# Altium integrated library Resistors.IntLib: 4954 symbols (part 1 of 32)
Pins are listed as number, name and electrical type; pins without a type are passive.

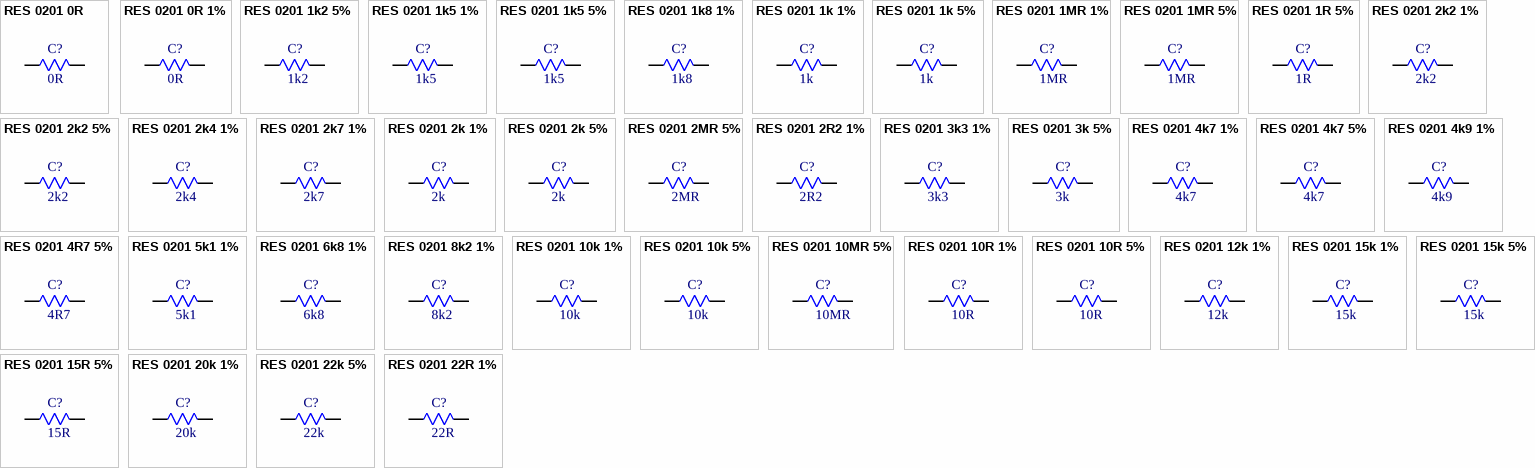
[diagram p0: symbols RES 0201 0R to RES 0201 22R 1%]

## RES 0201 0R
designator C?, comment 0R
0R 50mW 25V Thick Film Resistor 0201 Chip Resistor - Surface Mount RoHS; Manufacturer: FOJAN; Manufacturer Part Number: FRC0201P000 TS; Supplier: LCSC; Supplier Part Number: C7467269; Resistance: 0R; Voltage Rating: 25V; Power: 50mW
footprint RES SMD 0201
pins: 1, 2

## RES 0201 0R 1%
designator C?, comment 0R
0R 50mW Thick Film Resistor 1% 0201 Chip Resistor - Surface Mount RoHS; Manufacturer: FOJAN; Manufacturer Part Number: FRC0201F0000TS; Supplier: LCSC; Supplier Part Number: C7467275; Resistance: 0R; Tolerance: 1%; Power: 50mW
footprint RES SMD 0201
pins: 1, 2

## RES 0201 1k2 5%
designator C?, comment 1k2
1.2kR 50mW 25V Thick Film Resistor 200ppm/â„ƒ 5% 0201 Chip Resistor - Surface Mount RoHS; Manufacturer: FOJAN; Manufacturer Part Number: FRC0201J122 TS; Supplier: LCSC; Supplier Part Number: C18164356; Resistance: 1k2; Tolerance: 5%; Voltage Rating: 25V; Power: 50mW
footprint RES SMD 0201
pins: 1, 2

## RES 0201 1k5 1%
designator C?, comment 1k5
1.5kR 1% 50mW 0201 Thick Film Resistor; Manufacturer: FOJAN; Manufacturer Part Number: FRC0201F1501TS; Voltage Rating: 25V; Supplier: LCSC; Supplier Part Number: C46635930; Resistance: 1k5; Tolerance: 1%; Power: 50mW
footprint RES SMD 0201
pins: 1, 2

## RES 0201 1k5 5%
designator C?, comment 1k5
50mW 1.5kR Thick Film Resistor 200ppm/â„ƒ 5% 0201 Chip Resistor - Surface Mount RoHS; Manufacturer: FOJAN; Manufacturer Part Number: FRC0201J152 TS; Supplier: LCSC; Supplier Part Number: C7467261; Resistance: 1k5; Tolerance: 5%; Power: 50mW
footprint RES SMD 0201
pins: 1, 2

## RES 0201 1k8 1%
designator C?, comment 1k8
50mW 1.8kR 25V Thick Film Resistor 200ppm/â„ƒ 1% 0201 Chip Resistor - Surface Mount RoHS; Manufacturer: FOJAN; Manufacturer Part Number: FRC0201F1801TS; Supplier: LCSC; Supplier Part Number: C18164362; Resistance: 1k8; Tolerance: 1%; Voltage Rating: 25V; Power: 50mW
footprint RES SMD 0201
pins: 1, 2

## RES 0201 1k 1%
designator C?, comment 1k
50mW 1kR Thick Film Resistor 200ppm/â„ƒ 1% 0201 Chip Resistor - Surface Mount RoHS; Manufacturer: FOJAN; Manufacturer Part Number: FRC0201F1001TS; Supplier: LCSC; Supplier Part Number: C7467283; Resistance: 1k; Tolerance: 1%; Power: 50mW
footprint RES SMD 0201
pins: 1, 2

## RES 0201 1k 5%
designator C?, comment 1k
50mW 1kR Thick Film Resistor 200ppm/â„ƒ 5% 0201 Chip Resistor - Surface Mount RoHS; Manufacturer: FOJAN; Manufacturer Part Number: FRC0201J102 TS; Supplier: LCSC; Supplier Part Number: C7467313; Resistance: 1k; Tolerance: 5%; Power: 50mW
footprint RES SMD 0201
pins: 1, 2

## RES 0201 1MR 1%
designator C?, comment 1MR
50mW 1MR 25V Thick Film Resistor 200ppm/â„ƒ 1% 0201 Chip Resistor - Surface Mount RoHS; Manufacturer: FOJAN; Manufacturer Part Number: FRC0201F1004TS; Supplier: LCSC; Supplier Part Number: C18164322; Resistance: 1MR; Tolerance: 1%; Voltage Rating: 25V; Power: 50mW
footprint RES SMD 0201
pins: 1, 2

## RES 0201 1MR 5%
designator C?, comment 1MR
50mW 1MR Thick Film Resistor 200ppm/â„ƒ 5% 0201 Chip Resistor - Surface Mount RoHS; Manufacturer: FOJAN; Manufacturer Part Number: FRC0201J105 TS; Supplier: LCSC; Supplier Part Number: C7467315; Resistance: 1MR; Tolerance: 5%; Power: 50mW
footprint RES SMD 0201
pins: 1, 2

## RES 0201 1R 5%
designator C?, comment 1R
1R 50mW 25V Thick Film Resistor 400ppm/â„ƒ 5% 0201 Chip Resistor - Surface Mount RoHS; Manufacturer: FOJAN; Manufacturer Part Number: FRC0201J1R0 TS; Supplier: LCSC; Supplier Part Number: C18164327; Resistance: 1R; Tolerance: 5%; Voltage Rating: 25V; Power: 50mW
footprint RES SMD 0201
pins: 1, 2

## RES 0201 2k2 1%
designator C?, comment 2k2
50mW 2.2kR Thick Film Resistor 200ppm/â„ƒ 1% 0201 Chip Resistor - Surface Mount; Manufacturer: FOJAN; Manufacturer Part Number: FRC0201F2201TS; Supplier: LCSC; Supplier Part Number: C7467274; Resistance: 2k2; Tolerance: 1%; Power: 50mW
footprint RES SMD 0201
pins: 1, 2

## RES 0201 2k2 5%
designator C?, comment 2k2
50mW 2.2kR 25V Thick Film Resistor 200ppm/â„ƒ 5% 0201 Chip Resistor - Surface Mount RoHS; Manufacturer: FOJAN; Manufacturer Part Number: FRC0201J222 TS; Supplier: LCSC; Supplier Part Number: C18164331; Resistance: 2k2; Tolerance: 5%; Voltage Rating: 25V; Power: 50mW
footprint RES SMD 0201
pins: 1, 2

## RES 0201 2k4 1%
designator C?, comment 2k4
2.49kR 1% 50mW 0201 Thick Film Resistor; Manufacturer: FOJAN; Manufacturer Part Number: FRC0201F2491TS; Voltage Rating: 25V; Supplier: LCSC; Supplier Part Number: C46635941; Resistance: 2k4; Tolerance: 1%; Power: 50mW
footprint RES SMD 0201
pins: 1, 2

## RES 0201 2k7 1%
designator C?, comment 2k7
50mW 2.7kR Thick Film Resistor 200ppm/â„ƒ 1% 0201 Chip Resistor - Surface Mount RoHS; Manufacturer: FOJAN; Manufacturer Part Number: FRC0201F2701TS; Supplier: LCSC; Supplier Part Number: C7467314; Resistance: 2k7; Tolerance: 1%; Power: 50mW
footprint RES SMD 0201
pins: 1, 2

## RES 0201 2k 1%
designator C?, comment 2k
2kR 50mW 25V Thick Film Resistor 200ppm/â„ƒ 1% 0201 Chip Resistor - Surface Mount RoHS; Manufacturer: FOJAN; Manufacturer Part Number: FRC0201F2001TS; Supplier: LCSC; Supplier Part Number: C18164321; Resistance: 2k; Tolerance: 1%; Voltage Rating: 25V; Power: 50mW
footprint RES SMD 0201
pins: 1, 2

## RES 0201 2k 5%
designator C?, comment 2k
2kR 50mW 25V Thick Film Resistor 200ppm/â„ƒ 5% 0201 Chip Resistor - Surface Mount RoHS; Manufacturer: FOJAN; Manufacturer Part Number: FRC0201J202 TS; Supplier: LCSC; Supplier Part Number: C18164329; Resistance: 2k; Tolerance: 5%; Voltage Rating: 25V; Power: 50mW
footprint RES SMD 0201
pins: 1, 2

## RES 0201 2MR 5%
designator C?, comment 2MR
2MR 50mW 25V Thick Film Resistor 200ppm/â„ƒ 5% 0201 Chip Resistor - Surface Mount RoHS; Manufacturer: FOJAN; Manufacturer Part Number: FRC0201J205 TS; Supplier: LCSC; Supplier Part Number: C18164332; Resistance: 2MR; Tolerance: 5%; Voltage Rating: 25V; Power: 50mW
footprint RES SMD 0201
pins: 1, 2

## RES 0201 2R2 1%
designator C?, comment 2R2
2.2R 1% 50mW 0201 Thick Film Resistor; Manufacturer: FOJAN; Manufacturer Part Number: FRC0201F2R20TS; Voltage Rating: 25V; Supplier: LCSC; Supplier Part Number: C46635936; Resistance: 2R2; Tolerance: 1%; Power: 50mW
footprint RES SMD 0201
pins: 1, 2

## RES 0201 3k3 1%
designator C?, comment 3k3
3.3kR 1% 50mW 0201 Thick Film Resistor; Manufacturer: FOJAN; Manufacturer Part Number: FRC0201F3301TS; Voltage Rating: 25V; Supplier: LCSC; Supplier Part Number: C46635947; Resistance: 3k3; Tolerance: 1%; Power: 50mW
footprint RES SMD 0201
pins: 1, 2

## RES 0201 3k 5%
designator C?, comment 3k
50mW 3kR 25V Thick Film Resistor 200ppm/â„ƒ 5% 0201 Chip Resistor - Surface Mount RoHS; Manufacturer: FOJAN; Manufacturer Part Number: FRC0201J302 TS; Supplier: LCSC; Supplier Part Number: C18164333; Resistance: 3k; Tolerance: 5%; Voltage Rating: 25V; Power: 50mW
footprint RES SMD 0201
pins: 1, 2

## RES 0201 4k7 1%
designator C?, comment 4k7
50mW 4.7kR Thick Film Resistor 200ppm/â„ƒ 1% 0201 Chip Resistor - Surface Mount RoHS; Manufacturer: FOJAN; Manufacturer Part Number: FRC0201F4701TS; Supplier: LCSC; Supplier Part Number: C7467278; Resistance: 4k7; Tolerance: 1%; Power: 50mW
footprint RES SMD 0201
pins: 1, 2

## RES 0201 4k7 5%
designator C?, comment 4k7
50mW 4.7kR Thick Film Resistor 200ppm/â„ƒ 5% 0201 Chip Resistor - Surface Mount RoHS; Manufacturer: FOJAN; Manufacturer Part Number: FRC0201J472 TS; Supplier: LCSC; Supplier Part Number: C7467262; Resistance: 4k7; Tolerance: 5%; Power: 50mW
footprint RES SMD 0201
pins: 1, 2

## RES 0201 4k9 1%
designator C?, comment 4k9
50mW 4.99kR 25V Thick Film Resistor 200ppm/â„ƒ 1% 0201 Chip Resistor - Surface Mount RoHS; Manufacturer: FOJAN; Manufacturer Part Number: FRC0201F4991TS; Supplier: LCSC; Supplier Part Number: C18164336; Resistance: 4k9; Tolerance: 1%; Voltage Rating: 25V; Power: 50mW
footprint RES SMD 0201
pins: 1, 2

## RES 0201 4R7 5%
designator C?, comment 4R7
4.7R 50mW 25V Thick Film Resistor 400ppm/â„ƒ 5% 0201 Chip Resistor - Surface Mount RoHS; Manufacturer: FOJAN; Manufacturer Part Number: FRC0201J4R7 TS; Supplier: LCSC; Supplier Part Number: C18164357; Resistance: 4R7; Tolerance: 5%; Voltage Rating: 25V; Power: 50mW
footprint RES SMD 0201
pins: 1, 2

## RES 0201 5k1 1%
designator C?, comment 5k1
50mW 5.1kR Thick Film Resistor 200ppm/â„ƒ 1% 0201 Chip Resistor - Surface Mount RoHS; Manufacturer: FOJAN; Manufacturer Part Number: FRC0201F5101TS; Supplier: LCSC; Supplier Part Number: C7467277; Resistance: 5k1; Tolerance: 1%; Power: 50mW
footprint RES SMD 0201
pins: 1, 2

## RES 0201 6k8 1%
designator C?, comment 6k8
6.8kR 50mW 25V Thick Film Resistor 200ppm/â„ƒ 1% 0201 Chip Resistor - Surface Mount RoHS; Manufacturer: FOJAN; Manufacturer Part Number: FRC0201F6801TS; Supplier: LCSC; Supplier Part Number: C18164354; Resistance: 6k8; Tolerance: 1%; Voltage Rating: 25V; Power: 50mW
footprint RES SMD 0201
pins: 1, 2

## RES 0201 8k2 1%
designator C?, comment 8k2
50mW 8.2kR 25V Thick Film Resistor 200ppm/â„ƒ 1% 0201 Chip Resistor - Surface Mount RoHS; Manufacturer: FOJAN; Manufacturer Part Number: FRC0201F8201TS; Supplier: LCSC; Supplier Part Number: C18164351; Resistance: 8k2; Tolerance: 1%; Voltage Rating: 25V; Power: 50mW
footprint RES SMD 0201
pins: 1, 2

## RES 0201 10k 1%
designator C?, comment 10k
10kR 50mW Thick Film Resistor 200ppm/â„ƒ 1% 0201 Chip Resistor - Surface Mount RoHS; Manufacturer: FOJAN; Manufacturer Part Number: FRC0201F1002TS; Supplier: LCSC; Supplier Part Number: C7467282; Resistance: 10k; Tolerance: 1%; Power: 50mW
footprint RES SMD 0201
pins: 1, 2

## RES 0201 10k 5%
designator C?, comment 10k
10kR 50mW Thick Film Resistor 200ppm/â„ƒ 5% 0201 Chip Resistor - Surface Mount RoHS; Manufacturer: FOJAN; Manufacturer Part Number: FRC0201J103 TS; Supplier: LCSC; Supplier Part Number: C7467266; Resistance: 10k; Tolerance: 5%; Power: 50mW
footprint RES SMD 0201
pins: 1, 2

## RES 0201 10MR 5%
designator C?, comment 10MR
50mW 10MR 25V Thick Film Resistor 200ppm/â„ƒ 5% 0201 Chip Resistor - Surface Mount RoHS; Manufacturer: FOJAN; Manufacturer Part Number: FRC0201J106 TS; Supplier: LCSC; Supplier Part Number: C18164330; Resistance: 10MR; Tolerance: 5%; Voltage Rating: 25V; Power: 50mW
footprint RES SMD 0201
pins: 1, 2

## RES 0201 10R 1%
designator C?, comment 10R
10R 50mW 25V Thick Film Resistor 400ppm/â„ƒ 1% 0201 Chip Resistor - Surface Mount RoHS; Manufacturer: FOJAN; Manufacturer Part Number: FRC0201F10R0TS; Supplier: LCSC; Supplier Part Number: C18164317; Resistance: 10R; Tolerance: 1%; Voltage Rating: 25V; Power: 50mW
footprint RES SMD 0201
pins: 1, 2

## RES 0201 10R 5%
designator C?, comment 10R
10R 50mW 25V Thick Film Resistor 400ppm/â„ƒ 5% 0201 Chip Resistor - Surface Mount RoHS; Manufacturer: FOJAN; Manufacturer Part Number: FRC0201J100 TS; Supplier: LCSC; Supplier Part Number: C18164335; Resistance: 10R; Tolerance: 5%; Voltage Rating: 25V; Power: 50mW
footprint RES SMD 0201
pins: 1, 2

## RES 0201 12k 1%
designator C?, comment 12k
12kR 1% 50mW 0201 Thick Film Resistor; Manufacturer: FOJAN; Manufacturer Part Number: FRC0201F1202TS; Voltage Rating: 25V; Supplier: LCSC; Supplier Part Number: C46635933; Resistance: 12k; Tolerance: 1%; Power: 50mW
footprint RES SMD 0201
pins: 1, 2

## RES 0201 15k 1%
designator C?, comment 15k
15kR 50mW 25V Thick Film Resistor 200ppm/â„ƒ 1% 0201 Chip Resistor - Surface Mount RoHS; Manufacturer: FOJAN; Manufacturer Part Number: FRC0201F1502TS; Supplier: LCSC; Supplier Part Number: C18164326; Resistance: 15k; Tolerance: 1%; Voltage Rating: 25V; Power: 50mW
footprint RES SMD 0201
pins: 1, 2

## RES 0201 15k 5%
designator C?, comment 15k
15kR 50mW 25V Thick Film Resistor 200ppm/â„ƒ 5% 0201 Chip Resistor - Surface Mount RoHS; Manufacturer: FOJAN; Manufacturer Part Number: FRC0201J153 TS; Supplier: LCSC; Supplier Part Number: C18164345; Resistance: 15k; Tolerance: 5%; Voltage Rating: 25V; Power: 50mW
footprint RES SMD 0201
pins: 1, 2

## RES 0201 15R 5%
designator C?, comment 15R
50mW 15R 25V Thick Film Resistor 200ppm/â„ƒ 5% 0201 Chip Resistor - Surface Mount RoHS; Manufacturer: FOJAN; Manufacturer Part Number: FRC0201J150 TS; Supplier: LCSC; Supplier Part Number: C18164323; Resistance: 15R; Tolerance: 5%; Voltage Rating: 25V; Power: 50mW
footprint RES SMD 0201
pins: 1, 2

## RES 0201 20k 1%
designator C?, comment 20k
50mW 20kR Thick Film Resistor 200ppm/â„ƒ 1% 0201 Chip Resistor - Surface Mount RoHS; Manufacturer: FOJAN; Manufacturer Part Number: FRC0201F2002TS; Supplier: LCSC; Supplier Part Number: C7467285; Resistance: 20k; Tolerance: 1%; Power: 50mW
footprint RES SMD 0201
pins: 1, 2

## RES 0201 22k 5%
designator C?, comment 22k
50mW 22kR 25V Thick Film Resistor 200ppm/â„ƒ 5% 0201 Chip Resistor - Surface Mount RoHS; Manufacturer: FOJAN; Manufacturer Part Number: FRC0201J223 TS; Supplier: LCSC; Supplier Part Number: C18164360; Resistance: 22k; Tolerance: 5%; Voltage Rating: 25V; Power: 50mW
footprint RES SMD 0201
pins: 1, 2

## RES 0201 22R 1%
designator C?, comment 22R
22R 50mW 25V Thick Film Resistor 200ppm/â„ƒ 1% 0201 Chip Resistor - Surface Mount RoHS; Manufacturer: FOJAN; Manufacturer Part Number: FRC0201F22R0TS; Supplier: LCSC; Supplier Part Number: C18164319; Resistance: 22R; Tolerance: 1%; Voltage Rating: 25V; Power: 50mW
footprint RES SMD 0201
pins: 1, 2

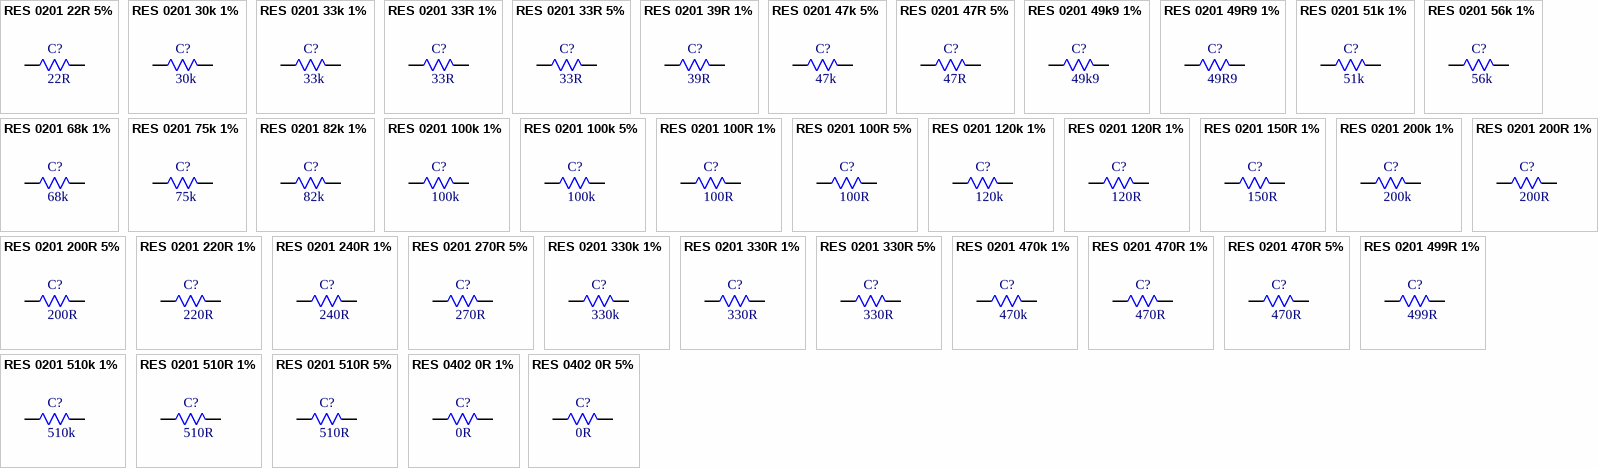
[diagram p1: symbols RES 0201 22R 5% to RES 0402 0R 5%]

## RES 0201 22R 5%
designator C?, comment 22R
22R 50mW Thick Film Resistor 200ppm/â„ƒ 5% 0201 Chip Resistor - Surface Mount RoHS; Manufacturer: FOJAN; Manufacturer Part Number: FRC0201J220 TS; Supplier: LCSC; Supplier Part Number: C7467268; Resistance: 22R; Tolerance: 5%; Power: 50mW
footprint RES SMD 0201
pins: 1, 2

## RES 0201 30k 1%
designator C?, comment 30k
50mW 30kR 25V Thick Film Resistor 200ppm/â„ƒ 1% 0201 Chip Resistor - Surface Mount RoHS; Manufacturer: FOJAN; Manufacturer Part Number: FRC0201F3002TS; Supplier: LCSC; Supplier Part Number: C18164349; Resistance: 30k; Tolerance: 1%; Voltage Rating: 25V; Power: 50mW
footprint RES SMD 0201
pins: 1, 2

## RES 0201 33k 1%
designator C?, comment 33k
33kR 1% 50mW 0201 Thick Film Resistor; Manufacturer: FOJAN; Manufacturer Part Number: FRC0201F3302TS; Voltage Rating: 25V; Supplier: LCSC; Supplier Part Number: C46635937; Resistance: 33k; Tolerance: 1%; Power: 50mW
footprint RES SMD 0201
pins: 1, 2

## RES 0201 33R 1%
designator C?, comment 33R
33R 50mW Thick Film Resistor 200ppm/â„ƒ 1% 0201 Chip Resistor - Surface Mount RoHS; Manufacturer: FOJAN; Manufacturer Part Number: FRC0201F33R0TS; Supplier: LCSC; Supplier Part Number: C7467271; Resistance: 33R; Tolerance: 1%; Power: 50mW
footprint RES SMD 0201
pins: 1, 2

## RES 0201 33R 5%
designator C?, comment 33R
33R 50mW 25V Thick Film Resistor 200ppm/â„ƒ 5% 0201 Chip Resistor - Surface Mount RoHS; Manufacturer: FOJAN; Manufacturer Part Number: FRC0201J330 TS; Supplier: LCSC; Supplier Part Number: C18164328; Resistance: 33R; Tolerance: 5%; Voltage Rating: 25V; Power: 50mW
footprint RES SMD 0201
pins: 1, 2

## RES 0201 39R 1%
designator C?, comment 39R
39R 50mW Thick Film Resistor 200ppm/â„ƒ 1% 0201 Chip Resistor - Surface Mount RoHS; Manufacturer: FOJAN; Manufacturer Part Number: FRC0201F39R0TS; Supplier: LCSC; Supplier Part Number: C7467286; Resistance: 39R; Tolerance: 1%; Power: 50mW
footprint RES SMD 0201
pins: 1, 2

## RES 0201 47k 5%
designator C?, comment 47k
47kR 50mW 25V Thick Film Resistor 200ppm/â„ƒ 5% 0201 Chip Resistor - Surface Mount RoHS; Manufacturer: FOJAN; Manufacturer Part Number: FRC0201J473 TS; Supplier: LCSC; Supplier Part Number: C18164341; Resistance: 47k; Tolerance: 5%; Voltage Rating: 25V; Power: 50mW
footprint RES SMD 0201
pins: 1, 2

## RES 0201 47R 5%
designator C?, comment 47R
47R 5% 50mW 0201 Thick Film Resistor; Manufacturer: FOJAN; Manufacturer Part Number: FRC0201J470 TS; Voltage Rating: 25V; Supplier: LCSC; Supplier Part Number: C46635948; Resistance: 47R; Tolerance: 5%; Power: 50mW
footprint RES SMD 0201
pins: 1, 2

## RES 0201 49k9 1%
designator C?, comment 49k9
49.9kR 1% 50mW 0201 Thick Film Resistor; Manufacturer: FOJAN; Manufacturer Part Number: FRC0201F4992TS; Voltage Rating: 25V; Supplier: LCSC; Supplier Part Number: C46635939; Resistance: 49k9; Tolerance: 1%; Power: 50mW
footprint RES SMD 0201
pins: 1, 2

## RES 0201 49R9 1%
designator C?, comment 49R9
49.9R 50mW Thick Film Resistor 200ppm/â„ƒ 1% 0201 Chip Resistor - Surface Mount RoHS; Manufacturer: FOJAN; Manufacturer Part Number: FRC0201F49R9TS; Supplier: LCSC; Supplier Part Number: C7467280; Resistance: 49R9; Tolerance: 1%; Power: 50mW
footprint RES SMD 0201
pins: 1, 2

## RES 0201 51k 1%
designator C?, comment 51k
51kR 1% 50mW 0201 Thick Film Resistor; Manufacturer: FOJAN; Manufacturer Part Number: FRC0201F5102TS; Voltage Rating: 25V; Supplier: LCSC; Supplier Part Number: C46635934; Resistance: 51k; Tolerance: 1%; Power: 50mW
footprint RES SMD 0201
pins: 1, 2

## RES 0201 56k 1%
designator C?, comment 56k
50mW 56kR 25V Thick Film Resistor 200ppm/â„ƒ 1% 0201 Chip Resistor - Surface Mount RoHS; Manufacturer: FOJAN; Manufacturer Part Number: FRC0201F5602TS; Supplier: LCSC; Supplier Part Number: C18164325; Resistance: 56k; Tolerance: 1%; Voltage Rating: 25V; Power: 50mW
footprint RES SMD 0201
pins: 1, 2

## RES 0201 68k 1%
designator C?, comment 68k
68kR 50mW 25V Thick Film Resistor 200ppm/â„ƒ 1% 0201 Chip Resistor - Surface Mount RoHS; Manufacturer: FOJAN; Manufacturer Part Number: FRC0201F6802TS; Supplier: LCSC; Supplier Part Number: C18164353; Resistance: 68k; Tolerance: 1%; Voltage Rating: 25V; Power: 50mW
footprint RES SMD 0201
pins: 1, 2

## RES 0201 75k 1%
designator C?, comment 75k
50mW 75kR 25V Thick Film Resistor 200ppm/â„ƒ 1% 0201 Chip Resistor - Surface Mount RoHS; Manufacturer: FOJAN; Manufacturer Part Number: FRC0201F7502TS; Supplier: LCSC; Supplier Part Number: C18164324; Resistance: 75k; Tolerance: 1%; Voltage Rating: 25V; Power: 50mW
footprint RES SMD 0201
pins: 1, 2

## RES 0201 82k 1%
designator C?, comment 82k
50mW 82kR 25V Thick Film Resistor 200ppm/â„ƒ 1% 0201 Chip Resistor - Surface Mount RoHS; Manufacturer: FOJAN; Manufacturer Part Number: FRC0201F8202TS; Supplier: LCSC; Supplier Part Number: C18164355; Resistance: 82k; Tolerance: 1%; Voltage Rating: 25V; Power: 50mW
footprint RES SMD 0201
pins: 1, 2

## RES 0201 100k 1%
designator C?, comment 100k
50mW 100kR 25V Thick Film Resistor 200ppm/â„ƒ 1% 0201 Chip Resistor - Surface Mount RoHS; Manufacturer: FOJAN; Manufacturer Part Number: FRC0201F1003TS; Supplier: LCSC; Supplier Part Number: C18164339; Resistance: 100k; Tolerance: 1%; Voltage Rating: 25V; Power: 50mW
footprint RES SMD 0201
pins: 1, 2

## RES 0201 100k 5%
designator C?, comment 100k
50mW 100kR Thick Film Resistor 200ppm/â„ƒ 5% 0201 Chip Resistor - Surface Mount RoHS; Manufacturer: FOJAN; Manufacturer Part Number: FRC0201J104 TS; Supplier: LCSC; Supplier Part Number: C7467260; Resistance: 100k; Tolerance: 5%; Power: 50mW
footprint RES SMD 0201
pins: 1, 2

## RES 0201 100R 1%
designator C?, comment 100R
50mW 100R Thick Film Resistor 200ppm/â„ƒ 1% 0201 Chip Resistor - Surface Mount RoHS; Manufacturer: FOJAN; Manufacturer Part Number: FRC0201F1000TS; Supplier: LCSC; Supplier Part Number: C7467289; Resistance: 100R; Tolerance: 1%; Power: 50mW
footprint RES SMD 0201
pins: 1, 2

## RES 0201 100R 5%
designator C?, comment 100R
50mW 100R Thick Film Resistor 200ppm/â„ƒ 5% 0201 Chip Resistor - Surface Mount RoHS; Manufacturer: FOJAN; Manufacturer Part Number: FRC0201J101 TS; Supplier: LCSC; Supplier Part Number: C7467265; Resistance: 100R; Tolerance: 5%; Power: 50mW
footprint RES SMD 0201
pins: 1, 2

## RES 0201 120k 1%
designator C?, comment 120k
120kR 1% 50mW 0201 Thick Film Resistor; Manufacturer: FOJAN; Manufacturer Part Number: FRC0201F1203TS; Voltage Rating: 25V; Supplier: LCSC; Supplier Part Number: C46635940; Resistance: 120k; Tolerance: 1%; Power: 50mW
footprint RES SMD 0201
pins: 1, 2

## RES 0201 120R 1%
designator C?, comment 120R
120R 1% 50mW 0201 Thick Film Resistor; Manufacturer: FOJAN; Manufacturer Part Number: FRC0201F1200TS; Voltage Rating: 25V; Supplier: LCSC; Supplier Part Number: C46635935; Resistance: 120R; Tolerance: 1%; Power: 50mW
footprint RES SMD 0201
pins: 1, 2

## RES 0201 150R 1%
designator C?, comment 150R
50mW 150R Thick Film Resistor 200ppm/â„ƒ 1% 0201 Chip Resistor - Surface Mount; Manufacturer: FOJAN; Manufacturer Part Number: FRC0201F1500TS; Supplier: LCSC; Supplier Part Number: C7467287; Resistance: 150R; Tolerance: 1%; Power: 50mW
footprint RES SMD 0201
pins: 1, 2

## RES 0201 200k 1%
designator C?, comment 200k
50mW 200kR 25V Thick Film Resistor 200ppm/â„ƒ 1% 0201 Chip Resistor - Surface Mount RoHS; Manufacturer: FOJAN; Manufacturer Part Number: FRC0201F2003TS; Supplier: LCSC; Supplier Part Number: C18164344; Resistance: 200k; Tolerance: 1%; Voltage Rating: 25V; Power: 50mW
footprint RES SMD 0201
pins: 1, 2

## RES 0201 200R 1%
designator C?, comment 200R
50mW 200R 25V Thick Film Resistor 200ppm/â„ƒ 1% 0201 Chip Resistor - Surface Mount RoHS; Manufacturer: FOJAN; Manufacturer Part Number: FRC0201F2000TS; Supplier: LCSC; Supplier Part Number: C18164318; Resistance: 200R; Tolerance: 1%; Voltage Rating: 25V; Power: 50mW
footprint RES SMD 0201
pins: 1, 2

## RES 0201 200R 5%
designator C?, comment 200R
50mW 200R Thick Film Resistor 200ppm/â„ƒ 5% 0201 Chip Resistor - Surface Mount RoHS; Manufacturer: FOJAN; Manufacturer Part Number: FRC0201J201 TS; Supplier: LCSC; Supplier Part Number: C7467263; Resistance: 200R; Tolerance: 5%; Power: 50mW
footprint RES SMD 0201
pins: 1, 2

## RES 0201 220R 1%
designator C?, comment 220R
220R 1% 50mW 0201 Thick Film Resistor; Manufacturer: FOJAN; Manufacturer Part Number: FRC0201F2200TS; Voltage Rating: 25V; Supplier: LCSC; Supplier Part Number: C46635932; Resistance: 220R; Tolerance: 1%; Power: 50mW
footprint RES SMD 0201
pins: 1, 2

## RES 0201 240R 1%
designator C?, comment 240R
240R 50mW Thick Film Resistor 200ppm/â„ƒ 1% 0201 Chip Resistor - Surface Mount; Manufacturer: FOJAN; Manufacturer Part Number: FRC0201F2400TS; Supplier: LCSC; Supplier Part Number: C7467273; Resistance: 240R; Tolerance: 1%; Power: 50mW
footprint RES SMD 0201
pins: 1, 2

## RES 0201 270R 5%
designator C?, comment 270R
50mW 270R 25V Thick Film Resistor 200ppm/â„ƒ 5% 0201 Chip Resistor - Surface Mount RoHS; Manufacturer: FOJAN; Manufacturer Part Number: FRC0201J271 TS; Supplier: LCSC; Supplier Part Number: C18164347; Resistance: 270R; Tolerance: 5%; Voltage Rating: 25V; Power: 50mW
footprint RES SMD 0201
pins: 1, 2

## RES 0201 330k 1%
designator C?, comment 330k
330kR 1% 50mW 0201 Thick Film Resistor; Manufacturer: FOJAN; Manufacturer Part Number: FRC0201F3303TS; Voltage Rating: 25V; Supplier: LCSC; Supplier Part Number: C46635946; Resistance: 330k; Tolerance: 1%; Power: 50mW
footprint RES SMD 0201
pins: 1, 2

## RES 0201 330R 1%
designator C?, comment 330R
330R 1% 50mW 0201 Thick Film Resistor; Manufacturer: FOJAN; Manufacturer Part Number: FRC0201F3300TS; Voltage Rating: 25V; Supplier: LCSC; Supplier Part Number: C46635938; Resistance: 330R; Tolerance: 1%; Power: 50mW
footprint RES SMD 0201
pins: 1, 2

## RES 0201 330R 5%
designator C?, comment 330R
50mW 330R Thick Film Resistor 200ppm/â„ƒ 5% 0201 Chip Resistor - Surface Mount RoHS; Manufacturer: FOJAN; Manufacturer Part Number: FRC0201J331 TS; Supplier: LCSC; Supplier Part Number: C7467316; Resistance: 330R; Tolerance: 5%; Power: 50mW
footprint RES SMD 0201
pins: 1, 2

## RES 0201 470k 1%
designator C?, comment 470k
470kR 1% 50mW 0201 Thick Film Resistor; Manufacturer: FOJAN; Manufacturer Part Number: FRC0201F4703TS; Voltage Rating: 25V; Supplier: LCSC; Supplier Part Number: C46635943; Resistance: 470k; Tolerance: 1%; Power: 50mW
footprint RES SMD 0201
pins: 1, 2

## RES 0201 470R 1%
designator C?, comment 470R
50mW 470R 25V Thick Film Resistor 200ppm/â„ƒ 1% 0201 Chip Resistor - Surface Mount RoHS; Manufacturer: FOJAN; Manufacturer Part Number: FRC0201F4700TS; Supplier: LCSC; Supplier Part Number: C18164342; Resistance: 470R; Tolerance: 1%; Voltage Rating: 25V; Power: 50mW
footprint RES SMD 0201
pins: 1, 2

## RES 0201 470R 5%
designator C?, comment 470R
50mW 470R 25V Thick Film Resistor 200ppm/â„ƒ 5% 0201 Chip Resistor - Surface Mount RoHS; Manufacturer: FOJAN; Manufacturer Part Number: FRC0201J471 TS; Supplier: LCSC; Supplier Part Number: C18164334; Resistance: 470R; Tolerance: 5%; Voltage Rating: 25V; Power: 50mW
footprint RES SMD 0201
pins: 1, 2

## RES 0201 499R 1%
designator C?, comment 499R
499R 1% 50mW 0201 Thick Film Resistor; Manufacturer: FOJAN; Manufacturer Part Number: FRC0201F4990TS; Voltage Rating: 25V; Supplier: LCSC; Supplier Part Number: C46635942; Resistance: 499R; Tolerance: 1%; Power: 50mW
footprint RES SMD 0201
pins: 1, 2

## RES 0201 510k 1%
designator C?, comment 510k
510kR 1% 50mW 0201 Thick Film Resistor; Manufacturer: FOJAN; Manufacturer Part Number: FRC0201F5103TS; Voltage Rating: 25V; Supplier: LCSC; Supplier Part Number: C46635944; Resistance: 510k; Tolerance: 1%; Power: 50mW
footprint RES SMD 0201
pins: 1, 2

## RES 0201 510R 1%
designator C?, comment 510R
50mW 510R 25V Thick Film Resistor 200ppm/â„ƒ 1% 0201 Chip Resistor - Surface Mount RoHS; Manufacturer: FOJAN; Manufacturer Part Number: FRC0201F5100TS; Supplier: LCSC; Supplier Part Number: C18164320; Resistance: 510R; Tolerance: 1%; Voltage Rating: 25V; Power: 50mW
footprint RES SMD 0201
pins: 1, 2

## RES 0201 510R 5%
designator C?, comment 510R
50mW 510R 25V Thick Film Resistor 200ppm/â„ƒ 5% 0201 Chip Resistor - Surface Mount RoHS; Manufacturer: FOJAN; Manufacturer Part Number: FRC0201J511 TS; Supplier: LCSC; Supplier Part Number: C18164337; Resistance: 510R; Tolerance: 5%; Voltage Rating: 25V; Power: 50mW
footprint RES SMD 0201
pins: 1, 2

## RES 0402 0R 1%
designator C?, comment 0R
62.5mW 0R 50V Thick Film Resistor 1% 0402 Chip Resistor - Surface Mount RoHS; Manufacturer: FOJAN; Manufacturer Part Number: FRC0402F0000TS; Supplier: LCSC; Supplier Part Number: C2906858; Resistance: 0R; Tolerance: 1%; Voltage Rating: 50V; Power: 62.5mW
footprint RES SMD 0402
pins: 1, 2

## RES 0402 0R 5%
designator C?, comment 0R
62.5mW 0R 50V Thick Film Resistor 5% 0402 Chip Resistor - Surface Mount RoHS; Manufacturer: FOJAN; Manufacturer Part Number: FRC0402P000 TS; Supplier: LCSC; Supplier Part Number: C2906877; Resistance: 0R; Tolerance: 5%; Voltage Rating: 50V; Power: 62.5mW
footprint RES SMD 0402
pins: 1, 2

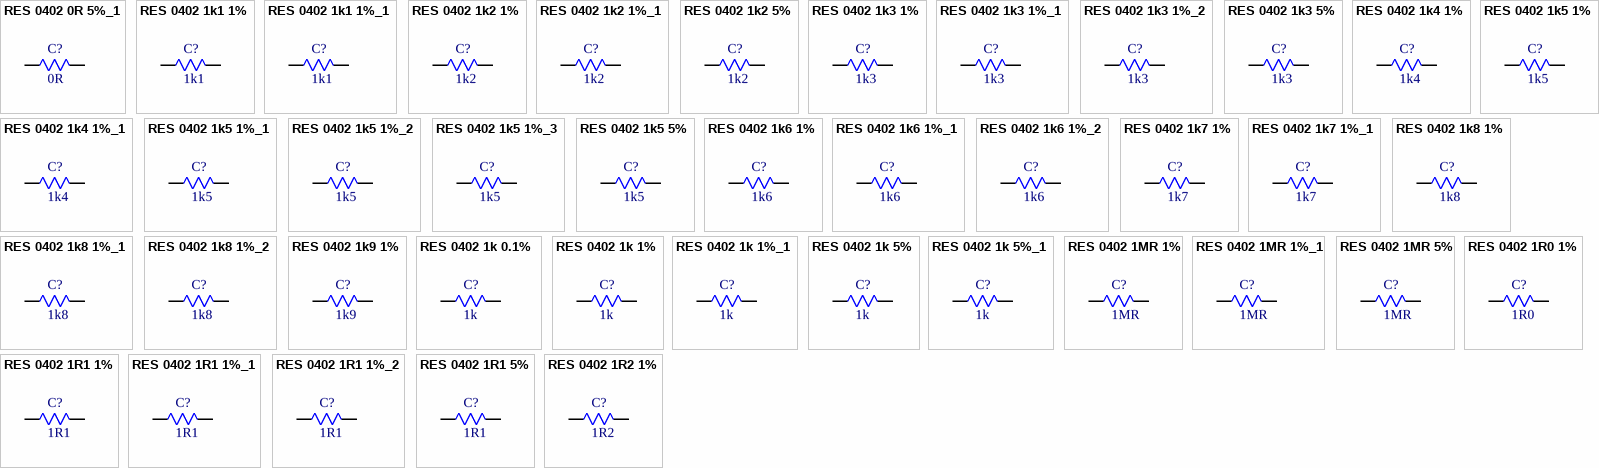
[diagram p2: symbols RES 0402 0R 5%_1 to RES 0402 1R2 1%]

## RES 0402 0R 5%_1
designator C?, comment 0R
0R 62.5mW Thick Film Resistor 5% 0402 Chip Resistor - Surface Mount RoHS; Manufacturer: FOJAN; Manufacturer Part Number: FRQ0402P000 TS; Supplier: LCSC; Supplier Part Number: C7468674; Resistance: 0R; Tolerance: 5%; Power: 62.5mW
footprint RES SMD 0402
pins: 1, 2

## RES 0402 1k1 1%
designator C?, comment 1k1
1.1kR 1% 62.5mW 0402 Thick Film Resistor; Manufacturer: FOJAN; Manufacturer Part Number: FRC0402F1101TS; Voltage Rating: 50V; Supplier: LCSC; Supplier Part Number: C2909306; Resistance: 1k1; Tolerance: 1%; Power: 62.5mW
footprint RES SMD 0402
pins: 1, 2

## RES 0402 1k1 1%_1
designator C?, comment 1k1
1.15kR 1% 62.5mW 0402 Thick Film Resistor; Manufacturer: FOJAN; Manufacturer Part Number: FRC0402F1151TS; Voltage Rating: 50V; Supplier: LCSC; Supplier Part Number: C5159680; Resistance: 1k1; Tolerance: 1%; Power: 62.5mW
footprint RES SMD 0402
pins: 1, 2

## RES 0402 1k2 1%
designator C?, comment 1k2
1.2kR 1% 62.5mW 0402 Thick Film Resistor; Manufacturer: FOJAN; Manufacturer Part Number: FRC0402F1201TS; Voltage Rating: 50V; Supplier: LCSC; Supplier Part Number: C2909307; Resistance: 1k2; Tolerance: 1%; Power: 62.5mW
footprint RES SMD 0402
pins: 1, 2

## RES 0402 1k2 1%_1
designator C?, comment 1k2
1.2kR 62.5mW 50V Thick Film Resistor 1% 0402 Chip Resistor - Surface Mount RoHS; Manufacturer: FOJAN; Manufacturer Part Number: FRQ0402F1201TS; Supplier: LCSC; Supplier Part Number: C52033551; Resistance: 1k2; Tolerance: 1%; Voltage Rating: 50V; Power: 62.5mW
footprint RES SMD 0402
pins: 1, 2

## RES 0402 1k2 5%
designator C?, comment 1k2
1.2kR 5% 62.5mW 0402 Thick Film Resistor; Manufacturer: FOJAN; Manufacturer Part Number: FRC0402J122 TS; Voltage Rating: 50V; Supplier: LCSC; Supplier Part Number: C2906878; Resistance: 1k2; Tolerance: 5%; Power: 62.5mW
footprint RES SMD 0402
pins: 1, 2

## RES 0402 1k3 1%
designator C?, comment 1k3
1.3kR 1% 62.5mW 0402 Thick Film Resistor; Manufacturer: FOJAN; Manufacturer Part Number: FRC0402F1301TS; Voltage Rating: 50V; Supplier: LCSC; Supplier Part Number: C2909308; Resistance: 1k3; Tolerance: 1%; Power: 62.5mW
footprint RES SMD 0402
pins: 1, 2

## RES 0402 1k3 1%_1
designator C?, comment 1k3
62.5mW 1.3kR Thick Film Resistor 1% 100ppm/â„ƒ 0402 Chip Resistor - Surface Mount RoHS; Manufacturer: FOJAN; Manufacturer Part Number: FRQ0402F1301TS; Supplier: LCSC; Supplier Part Number: C7468692; Resistance: 1k3; Tolerance: 1%; Power: 62.5mW
footprint RES SMD 0402
pins: 1, 2

## RES 0402 1k3 1%_2
designator C?, comment 1k3
1.33kR 1% 62.5mW 0402 Thick Film Resistor; Manufacturer: FOJAN; Manufacturer Part Number: FRC0402F1331TS; Voltage Rating: 50V; Supplier: LCSC; Supplier Part Number: C2974006; Resistance: 1k3; Tolerance: 1%; Power: 62.5mW
footprint RES SMD 0402
pins: 1, 2

## RES 0402 1k3 5%
designator C?, comment 1k3
1.3kR 5% 62.5mW 0402 Thick Film Resistor; Manufacturer: FOJAN; Manufacturer Part Number: FRC0402J132 TS; Voltage Rating: 50V; Supplier: LCSC; Supplier Part Number: C2906879; Resistance: 1k3; Tolerance: 5%; Power: 62.5mW
footprint RES SMD 0402
pins: 1, 2

## RES 0402 1k4 1%
designator C?, comment 1k4
1.4kR 1% 62.5mW 0402 Thick Film Resistor; Manufacturer: FOJAN; Manufacturer Part Number: FRC0402F1401TS; Voltage Rating: 50V; Supplier: LCSC; Supplier Part Number: C2974008; Resistance: 1k4; Tolerance: 1%; Power: 62.5mW
footprint RES SMD 0402
pins: 1, 2

## RES 0402 1k4 1%_1
designator C?, comment 1k4
1.47kR 62.5mW 50V Thick Film Resistor 1% 0402 Chip Resistor - Surface Mount RoHS; Manufacturer: FOJAN; Manufacturer Part Number: FRQ0402F1471TS; Supplier: LCSC; Supplier Part Number: C51048292; Resistance: 1k4; Tolerance: 1%; Voltage Rating: 50V; Power: 62.5mW
footprint RES SMD 0402
pins: 1, 2

## RES 0402 1k5 1%
designator C?, comment 1k5
1.5kR 1% 62.5mW 0402 Thick Film Resistor; Manufacturer: FOJAN; Manufacturer Part Number: FRC0402F1501TS; Voltage Rating: 50V; Supplier: LCSC; Supplier Part Number: C2933074; Resistance: 1k5; Tolerance: 1%; Power: 62.5mW
footprint RES SMD 0402
pins: 1, 2

## RES 0402 1k5 1%_1
designator C?, comment 1k5
1.54kR 1% 62.5mW 0402 Thick Film Resistor; Manufacturer: FOJAN; Manufacturer Part Number: FRC0402F1541TS; Voltage Rating: 50V; Supplier: LCSC; Supplier Part Number: C2974010; Resistance: 1k5; Tolerance: 1%; Power: 62.5mW
footprint RES SMD 0402
pins: 1, 2

## RES 0402 1k5 1%_2
designator C?, comment 1k5
1.5kR 1% 62.5mW 0402 Thick Film Resistor; Manufacturer: FOJAN; Manufacturer Part Number: FRQ0402F1501TS; Voltage Rating: 50V; Supplier: LCSC; Supplier Part Number: C19267409; Resistance: 1k5; Tolerance: 1%; Power: 62.5mW
footprint RES SMD 0402
pins: 1, 2

## RES 0402 1k5 1%_3
designator C?, comment 1k5
1.58kR 1% 62.5mW 0402 Thick Film Resistor; Manufacturer: FOJAN; Manufacturer Part Number: FRC0402F1581TS; Voltage Rating: 50V; Supplier: LCSC; Supplier Part Number: C2974011; Resistance: 1k5; Tolerance: 1%; Power: 62.5mW
footprint RES SMD 0402
pins: 1, 2

## RES 0402 1k5 5%
designator C?, comment 1k5
1.5kR 5% 62.5mW 0402 Thick Film Resistor; Manufacturer: FOJAN; Manufacturer Part Number: FRC0402J152TS; Voltage Rating: 50V; Supplier: LCSC; Supplier Part Number: C2929900; Resistance: 1k5; Tolerance: 5%; Power: 62.5mW
footprint RES SMD 0402
pins: 1, 2

## RES 0402 1k6 1%
designator C?, comment 1k6
1.6kR 1% 62.5mW 0402 Thick Film Resistor; Manufacturer: FOJAN; Manufacturer Part Number: FRC0402F1601TS; Voltage Rating: 50V; Supplier: LCSC; Supplier Part Number: C2933076; Resistance: 1k6; Tolerance: 1%; Power: 62.5mW
footprint RES SMD 0402
pins: 1, 2

## RES 0402 1k6 1%_1
designator C?, comment 1k6
1.65kR 1% 62.5mW 0402 Thick Film Resistor; Manufacturer: FOJAN; Manufacturer Part Number: FRC0402F1651TS; Voltage Rating: 50V; Supplier: LCSC; Supplier Part Number: C5203995; Resistance: 1k6; Tolerance: 1%; Power: 62.5mW
footprint RES SMD 0402
pins: 1, 2

## RES 0402 1k6 1%_2
designator C?, comment 1k6
1.69kR 1% 62.5mW 0402 Thick Film Resistor; Manufacturer: FOJAN; Manufacturer Part Number: FRC0402F1691TS; Voltage Rating: 50V; Supplier: LCSC; Supplier Part Number: C5126050; Resistance: 1k6; Tolerance: 1%; Power: 62.5mW
footprint RES SMD 0402
pins: 1, 2

## RES 0402 1k7 1%
designator C?, comment 1k7
62.5mW 1.74kR 50V Thick Film Resistor 1% 100ppm/â„ƒ 0402 Chip Resistor - Surface Mount RoHS; Manufacturer: FOJAN; Manufacturer Part Number: FRC0402F1741TS; Supplier: LCSC; Supplier Part Number: C7467413; Resistance: 1k7; Tolerance: 1%; Voltage Rating: 50V; Power: 62.5mW
footprint RES SMD 0402
pins: 1, 2

## RES 0402 1k7 1%_1
designator C?, comment 1k7
1.78kR 1% 62.5mW 0402 Thick Film Resistor; Manufacturer: FOJAN; Manufacturer Part Number: FRC0402F1781TS; Voltage Rating: 50V; Supplier: LCSC; Supplier Part Number: C5121514; Resistance: 1k7; Tolerance: 1%; Power: 62.5mW
footprint RES SMD 0402
pins: 1, 2

## RES 0402 1k8 1%
designator C?, comment 1k8
1.8kR 1% 62.5mW 0402 Thick Film Resistor; Manufacturer: FOJAN; Manufacturer Part Number: FRC0402F1801TS; Voltage Rating: 50V; Supplier: LCSC; Supplier Part Number: C2909310; Resistance: 1k8; Tolerance: 1%; Power: 62.5mW
footprint RES SMD 0402
pins: 1, 2

## RES 0402 1k8 1%_1
designator C?, comment 1k8
1.8kR 1% 62.5mW 0402 Thick Film Resistor; Manufacturer: FOJAN; Manufacturer Part Number: FRQ0402F1801TS; Voltage Rating: 50V; Supplier: LCSC; Supplier Part Number: C19267410; Resistance: 1k8; Tolerance: 1%; Power: 62.5mW
footprint RES SMD 0402
pins: 1, 2

## RES 0402 1k8 1%_2
designator C?, comment 1k8
1.82kR 1% 62.5mW 0402 Thick Film Resistor; Manufacturer: FOJAN; Manufacturer Part Number: FRC0402F1821TS; Voltage Rating: 50V; Supplier: LCSC; Supplier Part Number: C5121516; Resistance: 1k8; Tolerance: 1%; Power: 62.5mW
footprint RES SMD 0402
pins: 1, 2

## RES 0402 1k9 1%
designator C?, comment 1k9
1.91kR 1% 62.5mW 0402 Thick Film Resistor; Manufacturer: FOJAN; Manufacturer Part Number: FRC0402F1911TS; Voltage Rating: 50V; Supplier: LCSC; Supplier Part Number: C2998115; Resistance: 1k9; Tolerance: 1%; Power: 62.5mW
footprint RES SMD 0402
pins: 1, 2

## RES 0402 1k 0.1%
designator C?, comment 1k
62.5mW 1kR 50V Thick Film Resistor 100ppm/â„ƒ 0.1% 0402 Chip Resistor - Surface Mount RoHS; Manufacturer: FOJAN; Manufacturer Part Number: FRH0402B1001TS; Supplier: LCSC; Supplier Part Number: C48533754; Resistance: 1k; Tolerance: 0.1%; Voltage Rating: 50V; Power: 62.5mW
footprint RES SMD 0402
pins: 1, 2

## RES 0402 1k 1%
designator C?, comment 1k
1kR 1% 62.5mW 0402 Thick Film Resistor; Manufacturer: FOJAN; Manufacturer Part Number: FRC0402F1001TS; Voltage Rating: 50V; Supplier: LCSC; Supplier Part Number: C2906864; Resistance: 1k; Tolerance: 1%; Power: 62.5mW
footprint RES SMD 0402
pins: 1, 2

## RES 0402 1k 1%_1
designator C?, comment 1k
62.5mW 1kR 50V Thick Film Resistor 100ppm/â„ƒ 1% 0402 Chip Resistor - Surface Mount RoHS; Manufacturer: FOJAN; Manufacturer Part Number: FRQ0402F1001TS; Supplier: LCSC; Supplier Part Number: C18222264; Resistance: 1k; Tolerance: 1%; Voltage Rating: 50V; Power: 62.5mW
footprint RES SMD 0402
pins: 1, 2

## RES 0402 1k 5%
designator C?, comment 1k
62.5mW 1kR 50V Thick Film Resistor 5% 100ppm/â„ƒ 0402 Chip Resistor - Surface Mount RoHS; Manufacturer: FOJAN; Manufacturer Part Number: FRQ0402J102 TS; Supplier: LCSC; Supplier Part Number: C7471239; Resistance: 1k; Tolerance: 5%; Voltage Rating: 50V; Power: 62.5mW
footprint RES SMD 0402
pins: 1, 2

## RES 0402 1k 5%_1
designator C?, comment 1k
1kR 5% 62.5mW 0402 Thick Film Resistor; Manufacturer: FOJAN; Manufacturer Part Number: FRC0402J102 TS; Voltage Rating: 50V; Supplier: LCSC; Supplier Part Number: C2906899; Resistance: 1k; Tolerance: 5%; Power: 62.5mW
footprint RES SMD 0402
pins: 1, 2

## RES 0402 1MR 1%
designator C?, comment 1MR
1MR 1% 62.5mW 0402 Thick Film Resistor; Manufacturer: FOJAN; Manufacturer Part Number: FRC0402F1004TS; Voltage Rating: 50V; Supplier: LCSC; Supplier Part Number: C2909328; Resistance: 1MR; Tolerance: 1%; Power: 62.5mW
footprint RES SMD 0402
pins: 1, 2

## RES 0402 1MR 1%_1
designator C?, comment 1MR
1MR 62.5mW 50V Thick Film Resistor 1% 0402 Chip Resistor - Surface Mount RoHS; Manufacturer: FOJAN; Manufacturer Part Number: FRQ0402F1004TS; Supplier: LCSC; Supplier Part Number: C52033550; Resistance: 1MR; Tolerance: 1%; Voltage Rating: 50V; Power: 62.5mW
footprint RES SMD 0402
pins: 1, 2

## RES 0402 1MR 5%
designator C?, comment 1MR
1MR 5% 62.5mW 0402 Thick Film Resistor; Manufacturer: FOJAN; Manufacturer Part Number: FRC0402J105 TS; Voltage Rating: 50V; Supplier: LCSC; Supplier Part Number: C2906900; Resistance: 1MR; Tolerance: 5%; Power: 62.5mW
footprint RES SMD 0402
pins: 1, 2

## RES 0402 1R0 1%
designator C?, comment 1R0
1.07MR 1% 62.5mW 0402 Thick Film Resistor; Manufacturer: FOJAN; Manufacturer Part Number: FRC0402F1074TS; Voltage Rating: 50V; Supplier: LCSC; Supplier Part Number: C2998044; Resistance: 1R0; Tolerance: 1%; Power: 62.5mW
footprint RES SMD 0402
pins: 1, 2

## RES 0402 1R1 1%
designator C?, comment 1R1
1.1MR 1% 62.5mW 0402 Thick Film Resistor; Manufacturer: FOJAN; Manufacturer Part Number: FRC0402F1104TS; Voltage Rating: 50V; Supplier: LCSC; Supplier Part Number: C2930013; Resistance: 1R1; Tolerance: 1%; Power: 62.5mW
footprint RES SMD 0402
pins: 1, 2

## RES 0402 1R1 1%_1
designator C?, comment 1R1
1.1R 1% 62.5mW 0402 Thick Film Resistor; Manufacturer: FOJAN; Manufacturer Part Number: FRC0402F1R10TS; Voltage Rating: 50V; Supplier: LCSC; Supplier Part Number: C2960786; Resistance: 1R1; Tolerance: 1%; Power: 62.5mW
footprint RES SMD 0402
pins: 1, 2

## RES 0402 1R1 1%_2
designator C?, comment 1R1
1.13MR 62.5mW 50V Thick Film Resistor 1% 0402 Chip Resistor - Surface Mount RoHS; Manufacturer: FOJAN; Manufacturer Part Number: FRC0402F1134TS; Supplier: LCSC; Supplier Part Number: C51048313; Resistance: 1R1; Tolerance: 1%; Voltage Rating: 50V; Power: 62.5mW
footprint RES SMD 0402
pins: 1, 2

## RES 0402 1R1 5%
designator C?, comment 1R1
1.1R 5% 62.5mW 0402 Thick Film Resistor; Manufacturer: FOJAN; Manufacturer Part Number: FRC0402J1R1 TS; Voltage Rating: 50V; Supplier: LCSC; Supplier Part Number: C2974018; Resistance: 1R1; Tolerance: 5%; Power: 62.5mW
footprint RES SMD 0402
pins: 1, 2

## RES 0402 1R2 1%
designator C?, comment 1R2
1.2R 1% 62.5mW 0402 Thick Film Resistor; Manufacturer: FOJAN; Manufacturer Part Number: FRC0402F1R20TS; Voltage Rating: 50V; Supplier: LCSC; Supplier Part Number: C2998063; Resistance: 1R2; Tolerance: 1%; Power: 62.5mW
footprint RES SMD 0402
pins: 1, 2

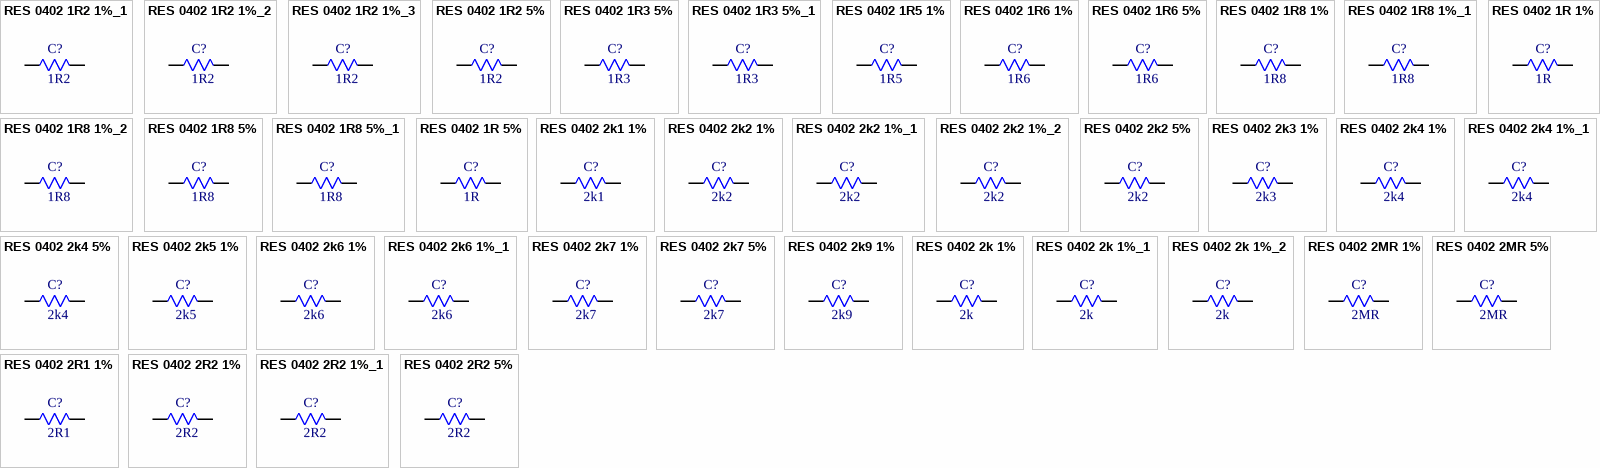
[diagram p3: symbols RES 0402 1R2 1%_1 to RES 0402 2R2 5%]

## RES 0402 1R2 1%_1
designator C?, comment 1R2
1.2MR 1% 62.5mW 0402 Thick Film Resistor; Manufacturer: FOJAN; Manufacturer Part Number: FRC0402F1204TS; Voltage Rating: 50V; Supplier: LCSC; Supplier Part Number: C2960795; Resistance: 1R2; Tolerance: 1%; Power: 62.5mW
footprint RES SMD 0402
pins: 1, 2

## RES 0402 1R2 1%_2
designator C?, comment 1R2
62.5mW 1.21MR 50V Thick Film Resistor 100ppm/â„ƒ 1% 0402 Chip Resistor - Surface Mount RoHS; Manufacturer: FOJAN; Manufacturer Part Number: FRC0402F1214TS; Supplier: LCSC; Supplier Part Number: C48533740; Resistance: 1R2; Tolerance: 1%; Voltage Rating: 50V; Power: 62.5mW
footprint RES SMD 0402
pins: 1, 2

## RES 0402 1R2 1%_3
designator C?, comment 1R2
1.27R 1% 62.5mW 0402 Thick Film Resistor; Manufacturer: FOJAN; Manufacturer Part Number: FRC0402F1R27TS; Voltage Rating: 50V; Supplier: LCSC; Supplier Part Number: C5126157; Resistance: 1R2; Tolerance: 1%; Power: 62.5mW
footprint RES SMD 0402
pins: 1, 2

## RES 0402 1R2 5%
designator C?, comment 1R2
1.2MR 5% 62.5mW 0402 Thick Film Resistor; Manufacturer: FOJAN; Manufacturer Part Number: FRC0402J125TS; Voltage Rating: 50V; Supplier: LCSC; Supplier Part Number: C2929897; Resistance: 1R2; Tolerance: 5%; Power: 62.5mW
footprint RES SMD 0402
pins: 1, 2

## RES 0402 1R3 5%
designator C?, comment 1R3
1.3R 5% 62.5mW 0402 Thick Film Resistor; Manufacturer: FOJAN; Manufacturer Part Number: FRC0402J1R3 TS; Voltage Rating: 50V; Supplier: LCSC; Supplier Part Number: C2974019; Resistance: 1R3; Tolerance: 5%; Power: 62.5mW
footprint RES SMD 0402
pins: 1, 2

## RES 0402 1R3 5%_1
designator C?, comment 1R3
1.3MR 5% 62.5mW 0402 Thick Film Resistor; Manufacturer: FOJAN; Manufacturer Part Number: FRC0402J135TS; Voltage Rating: 50V; Supplier: LCSC; Supplier Part Number: C2929899; Resistance: 1R3; Tolerance: 5%; Power: 62.5mW
footprint RES SMD 0402
pins: 1, 2

## RES 0402 1R5 1%
designator C?, comment 1R5
1.5MR 1% 62.5mW 0402 Thick Film Resistor; Manufacturer: FOJAN; Manufacturer Part Number: FRC0402F1504TS; Voltage Rating: 50V; Supplier: LCSC; Supplier Part Number: C2930014; Resistance: 1R5; Tolerance: 1%; Power: 62.5mW
footprint RES SMD 0402
pins: 1, 2

## RES 0402 1R6 1%
designator C?, comment 1R6
1.6R 1% 62.5mW 0402 Thick Film Resistor; Manufacturer: FOJAN; Manufacturer Part Number: FRC0402F1R60TS; Voltage Rating: 50V; Supplier: LCSC; Supplier Part Number: C2998157; Resistance: 1R6; Tolerance: 1%; Power: 62.5mW
footprint RES SMD 0402
pins: 1, 2

## RES 0402 1R6 5%
designator C?, comment 1R6
1.6R 5% 62.5mW 0402 Thick Film Resistor; Manufacturer: FOJAN; Manufacturer Part Number: FRC0402J1R6 TS; Voltage Rating: 50V; Supplier: LCSC; Supplier Part Number: C5121527; Resistance: 1R6; Tolerance: 5%; Power: 62.5mW
footprint RES SMD 0402
pins: 1, 2

## RES 0402 1R8 1%
designator C?, comment 1R8
1.8MR 1% 62.5mW 0402 Thick Film Resistor; Manufacturer: FOJAN; Manufacturer Part Number: FRC0402F1804TS; Voltage Rating: 50V; Supplier: LCSC; Supplier Part Number: C2933079; Resistance: 1R8; Tolerance: 1%; Power: 62.5mW
footprint RES SMD 0402
pins: 1, 2

## RES 0402 1R8 1%_1
designator C?, comment 1R8
1.87MR 1% 62.5mW 0402 Thick Film Resistor; Manufacturer: FOJAN; Manufacturer Part Number: FRC0402F1874TS; Voltage Rating: 50V; Supplier: LCSC; Supplier Part Number: C5121517; Resistance: 1R8; Tolerance: 1%; Power: 62.5mW
footprint RES SMD 0402
pins: 1, 2

## RES 0402 1R8 1%_2
designator C?, comment 1R8
1.8R 1% 62.5mW 0402 Thick Film Resistor; Manufacturer: FOJAN; Manufacturer Part Number: FRC0402F1R80TS; Voltage Rating: 50V; Supplier: LCSC; Supplier Part Number: C2960794; Resistance: 1R8; Tolerance: 1%; Power: 62.5mW
footprint RES SMD 0402
pins: 1, 2

## RES 0402 1R8 5%
designator C?, comment 1R8
1.8R 5% 62.5mW 0402 Thick Film Resistor; Manufacturer: FOJAN; Manufacturer Part Number: FRC0402J1R8TS; Voltage Rating: 50V; Supplier: LCSC; Supplier Part Number: C2929902; Resistance: 1R8; Tolerance: 5%; Power: 62.5mW
footprint RES SMD 0402
pins: 1, 2

## RES 0402 1R8 5%_1
designator C?, comment 1R8
1.8MR 5% 62.5mW 0402 Thick Film Resistor; Manufacturer: FOJAN; Manufacturer Part Number: FRC0402J185TS; Voltage Rating: 50V; Supplier: LCSC; Supplier Part Number: C2929901; Resistance: 1R8; Tolerance: 5%; Power: 62.5mW
footprint RES SMD 0402
pins: 1, 2

## RES 0402 1R 1%
designator C?, comment 1R
1R 1% 62.5mW 0402 Thick Film Resistor; Manufacturer: FOJAN; Manufacturer Part Number: FRC0402F1R00TS; Voltage Rating: 50V; Supplier: LCSC; Supplier Part Number: C2909329; Resistance: 1R; Tolerance: 1%; Power: 62.5mW
footprint RES SMD 0402
pins: 1, 2

## RES 0402 1R 5%
designator C?, comment 1R
1R 5% 62.5mW 0402 Thick Film Resistor; Manufacturer: FOJAN; Manufacturer Part Number: FRC0402J1R0 TS; Voltage Rating: 50V; Supplier: LCSC; Supplier Part Number: C2906901; Resistance: 1R; Tolerance: 5%; Power: 62.5mW
footprint RES SMD 0402
pins: 1, 2

## RES 0402 2k1 1%
designator C?, comment 2k1
2.1kR 1% 62.5mW 0402 Thick Film Resistor; Manufacturer: FOJAN; Manufacturer Part Number: FRC0402F2101TS; Voltage Rating: 50V; Supplier: LCSC; Supplier Part Number: C2998067; Resistance: 2k1; Tolerance: 1%; Power: 62.5mW
footprint RES SMD 0402
pins: 1, 2

## RES 0402 2k2 1%
designator C?, comment 2k2
2.2kR 1% 62.5mW 0402 Thick Film Resistor; Manufacturer: FOJAN; Manufacturer Part Number: FRC0402F2201TS; Voltage Rating: 50V; Supplier: LCSC; Supplier Part Number: C2906865; Resistance: 2k2; Tolerance: 1%; Power: 62.5mW
footprint RES SMD 0402
pins: 1, 2

## RES 0402 2k2 1%_1
designator C?, comment 2k2
2.21kR 1% 62.5mW 0402 Thick Film Resistor; Manufacturer: FOJAN; Manufacturer Part Number: FRC0402F2211TS; Voltage Rating: 50V; Supplier: LCSC; Supplier Part Number: C5153955; Resistance: 2k2; Tolerance: 1%; Power: 62.5mW
footprint RES SMD 0402
pins: 1, 2

## RES 0402 2k2 1%_2
designator C?, comment 2k2
2.26kR 1% 62.5mW 0402 Thick Film Resistor; Manufacturer: FOJAN; Manufacturer Part Number: FRC0402F2261TS; Voltage Rating: 50V; Supplier: LCSC; Supplier Part Number: C2998174; Resistance: 2k2; Tolerance: 1%; Power: 62.5mW
footprint RES SMD 0402
pins: 1, 2

## RES 0402 2k2 5%
designator C?, comment 2k2
2.2kR 5% 62.5mW 0402 Thick Film Resistor; Manufacturer: FOJAN; Manufacturer Part Number: FRC0402J222 TS; Voltage Rating: 50V; Supplier: LCSC; Supplier Part Number: C2906920; Resistance: 2k2; Tolerance: 5%; Power: 62.5mW
footprint RES SMD 0402
pins: 1, 2

## RES 0402 2k3 1%
designator C?, comment 2k3
2.32kR 1% 62.5mW 0402 Thick Film Resistor; Manufacturer: FOJAN; Manufacturer Part Number: FRC0402F2321TS; Voltage Rating: 50V; Supplier: LCSC; Supplier Part Number: C5121519; Resistance: 2k3; Tolerance: 1%; Power: 62.5mW
footprint RES SMD 0402
pins: 1, 2

## RES 0402 2k4 1%
designator C?, comment 2k4
2.49kR 1% 62.5mW 0402 Thick Film Resistor; Manufacturer: FOJAN; Manufacturer Part Number: FRC0402F2491TS; Voltage Rating: 50V; Supplier: LCSC; Supplier Part Number: C2933083; Resistance: 2k4; Tolerance: 1%; Power: 62.5mW
footprint RES SMD 0402
pins: 1, 2

## RES 0402 2k4 1%_1
designator C?, comment 2k4
2.4kR 1% 62.5mW 0402 Thick Film Resistor; Manufacturer: FOJAN; Manufacturer Part Number: FRC0402F2401TS; Voltage Rating: 50V; Supplier: LCSC; Supplier Part Number: C2909331; Resistance: 2k4; Tolerance: 1%; Power: 62.5mW
footprint RES SMD 0402
pins: 1, 2

## RES 0402 2k4 5%
designator C?, comment 2k4
2.4kR 5% 62.5mW 0402 Thick Film Resistor; Manufacturer: FOJAN; Manufacturer Part Number: FRC0402J242TS; Voltage Rating: 50V; Supplier: LCSC; Supplier Part Number: C2929911; Resistance: 2k4; Tolerance: 5%; Power: 62.5mW
footprint RES SMD 0402
pins: 1, 2

## RES 0402 2k5 1%
designator C?, comment 2k5
2.55kR 1% 62.5mW 0402 Thick Film Resistor; Manufacturer: FOJAN; Manufacturer Part Number: FRC0402F2551TS; Voltage Rating: 50V; Supplier: LCSC; Supplier Part Number: C2998047; Resistance: 2k5; Tolerance: 1%; Power: 62.5mW
footprint RES SMD 0402
pins: 1, 2

## RES 0402 2k6 1%
designator C?, comment 2k6
2.67kR 1% 62.5mW 0402 Thick Film Resistor; Manufacturer: FOJAN; Manufacturer Part Number: FRC0402F2671TS; Voltage Rating: 50V; Supplier: LCSC; Supplier Part Number: C5126204; Resistance: 2k6; Tolerance: 1%; Power: 62.5mW
footprint RES SMD 0402
pins: 1, 2

## RES 0402 2k6 1%_1
designator C?, comment 2k6
2.61kR 1% 62.5mW 0402 Thick Film Resistor; Manufacturer: FOJAN; Manufacturer Part Number: FRC0402F2611TS; Voltage Rating: 50V; Supplier: LCSC; Supplier Part Number: C5713268; Resistance: 2k6; Tolerance: 1%; Power: 62.5mW
footprint RES SMD 0402
pins: 1, 2

## RES 0402 2k7 1%
designator C?, comment 2k7
2.7kR 1% 62.5mW 0402 Thick Film Resistor; Manufacturer: FOJAN; Manufacturer Part Number: FRC0402F2701TS; Voltage Rating: 50V; Supplier: LCSC; Supplier Part Number: C2909332; Resistance: 2k7; Tolerance: 1%; Power: 62.5mW
footprint RES SMD 0402
pins: 1, 2

## RES 0402 2k7 5%
designator C?, comment 2k7
2.7kR 5% 62.5mW 0402 Thick Film Resistor; Manufacturer: FOJAN; Manufacturer Part Number: FRC0402J272 TS; Voltage Rating: 50V; Supplier: LCSC; Supplier Part Number: C2906905; Resistance: 2k7; Tolerance: 5%; Power: 62.5mW
footprint RES SMD 0402
pins: 1, 2

## RES 0402 2k9 1%
designator C?, comment 2k9
2.94kR 1% 62.5mW 0402 Thick Film Resistor; Manufacturer: FOJAN; Manufacturer Part Number: FRC0402F2941TS; Voltage Rating: 50V; Supplier: LCSC; Supplier Part Number: C2998068; Resistance: 2k9; Tolerance: 1%; Power: 62.5mW
footprint RES SMD 0402
pins: 1, 2

## RES 0402 2k 1%
designator C?, comment 2k
2kR 1% 62.5mW 0402 Thick Film Resistor; Manufacturer: FOJAN; Manufacturer Part Number: FRC0402F2001TS; Voltage Rating: 50V; Supplier: LCSC; Supplier Part Number: C2909344; Resistance: 2k; Tolerance: 1%; Power: 62.5mW
footprint RES SMD 0402
pins: 1, 2

## RES 0402 2k 1%_1
designator C?, comment 2k
2kR 1% 100mW 0402 Thick Film Resistor; Manufacturer: FOJAN; Manufacturer Part Number: FRP0402F2001TS; Voltage Rating: 50V; Supplier: LCSC; Supplier Part Number: C5126028; Resistance: 2k; Tolerance: 1%; Power: 100mW
footprint RES SMD 0402
pins: 1, 2

## RES 0402 2k 1%_2
designator C?, comment 2k
2kR 62.5mW 50V Thick Film Resistor 1% 100ppm/â„ƒ 0402 Chip Resistor - Surface Mount RoHS; Manufacturer: FOJAN; Manufacturer Part Number: FRQ0402F2001TS; Supplier: LCSC; Supplier Part Number: C7468655; Resistance: 2k; Tolerance: 1%; Voltage Rating: 50V; Power: 62.5mW
footprint RES SMD 0402
pins: 1, 2

## RES 0402 2MR 1%
designator C?, comment 2MR
2MR 1% 62.5mW 0402 Thick Film Resistor; Manufacturer: FOJAN; Manufacturer Part Number: FRC0402F2004TS; Voltage Rating: 50V; Supplier: LCSC; Supplier Part Number: C2930015; Resistance: 2MR; Tolerance: 1%; Power: 62.5mW
footprint RES SMD 0402
pins: 1, 2